# Altium footprint library 电源控制板---改版.PcbLib: 18 footprints (part 1 of 2)
Each footprint in its own frame and in the unit in brackets; x right, y up, seen from the top. Pads: shape width x height; smd on the part's side, far side on the other; paste and mask are expansions set on the pad; w line width, h text height; cw(c..) or ccw(c..) is an arc to the next point about the centre after c.
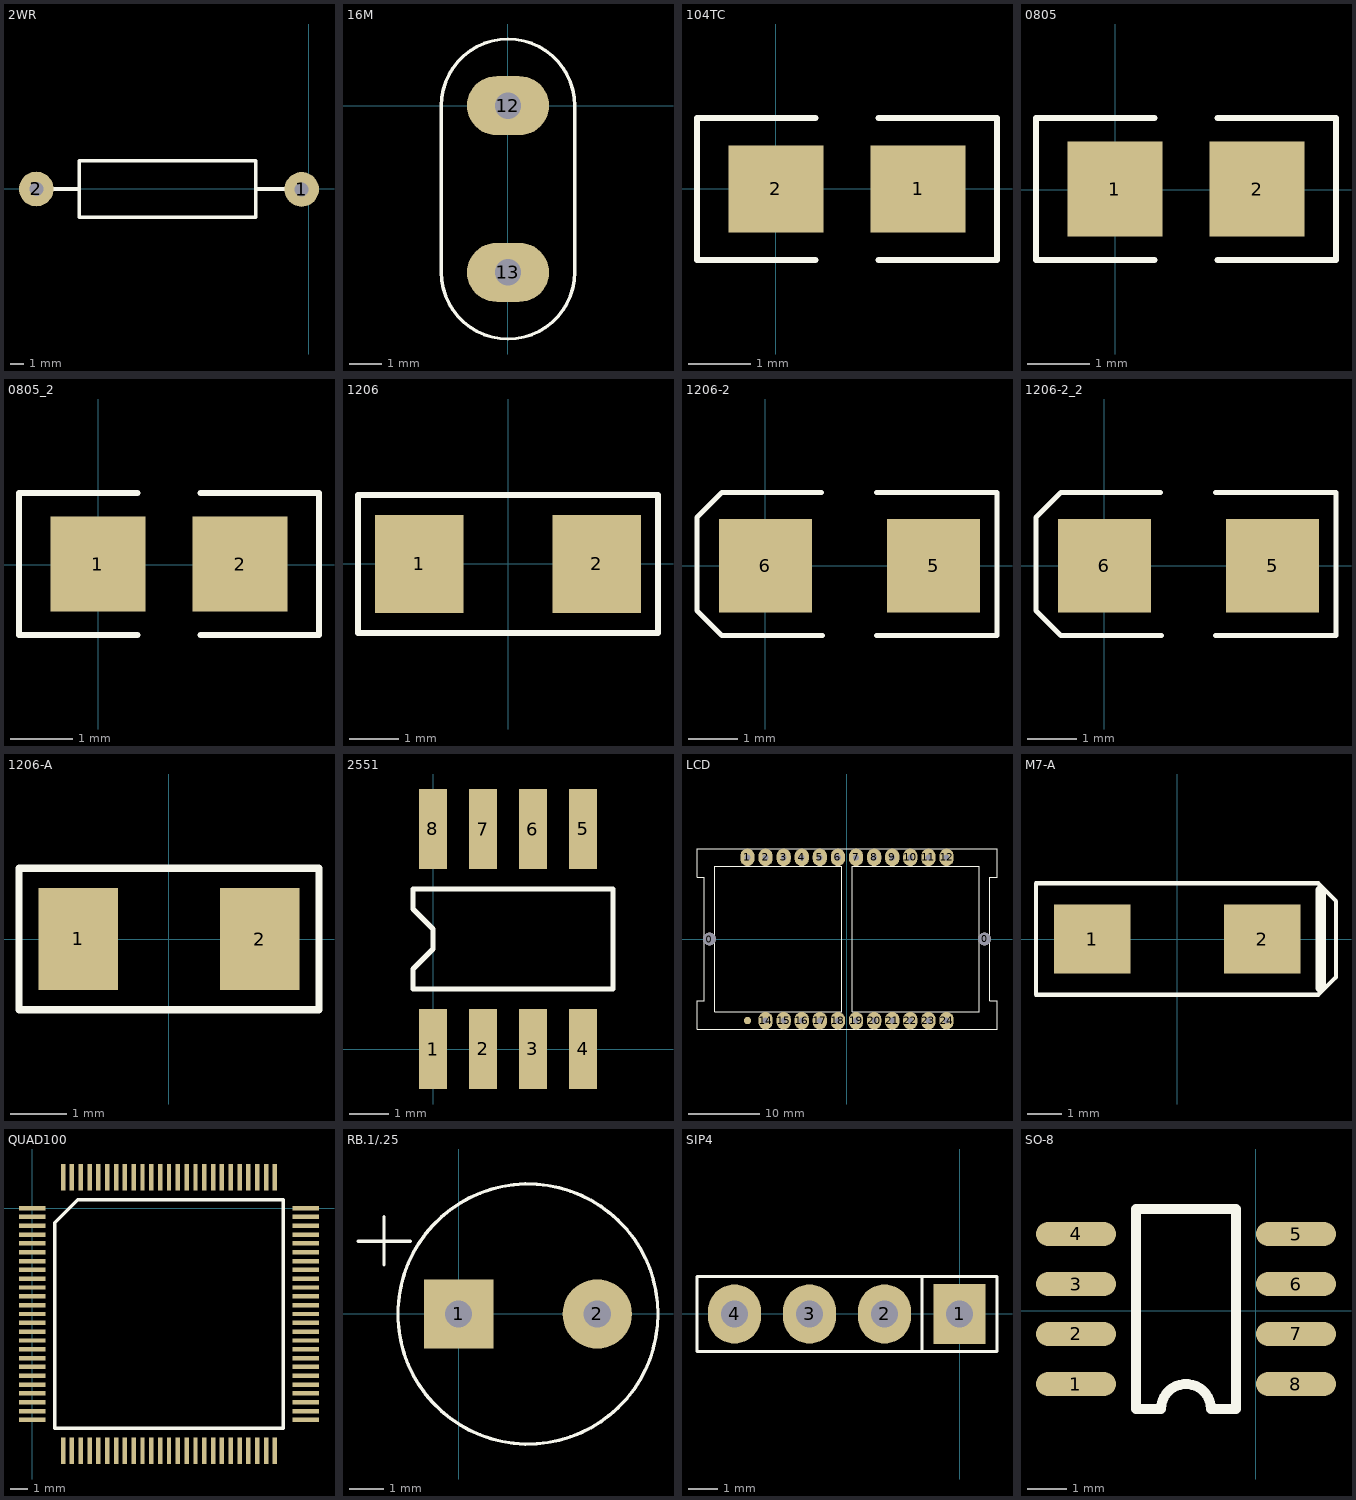
[diagram p0: the footprints below, top view; thin cyan lines are the x and y axes]

## 2WR [mm]
pads (2):
  round 2.5 hole 1: 1(-0.505,-0.03) 2(-19.604,0)
Top Overlay:
  lines w0.254: -19.05,0 -16.51,0 ; -3.81,0 -1.27,0 ; -16.51,-2.032 -16.51,2.032 -3.81,2.032 -3.81,-2.032 -16.51,-2.032

## 16M [mm]
pads (2):
  oval 2.5x1.8 hole 0.8: 12(0,0) 13(0,-5.08)
Top Overlay:
  lines w0.102: -2.032,-5.08 ccw(c0,-5.08) 2.032,-5.08 2.032,0 ccw(c0,0) -2.032,0 -2.032,-5.08

## 104TC [mil]
pads (2):
  rect 60x55.12 smd: 1(90,0) 2(0,0)
Top Overlay:
  lines w4: 25,-45 -50,-45 -50,45 25,45 ; 65,-45 140,-45 140,45 65,45

## 0805 [mil]
pads (2):
  rect 60x60 smd: 1(-0.28,0.39) 2(89.72,0.39)
Top Overlay:
  lines w4: 24.72,-44.61 -50.28,-44.61 -50.28,45.39 24.72,45.39 ; 64.72,-44.61 139.72,-44.61 139.72,45.39 64.72,45.39

## 0805_2 [mil]
pads (2):
  rect 60x60 smd: 1(-0.28,0.39) 2(89.72,0.39)
Top Overlay:
  lines w4: 24.72,-44.61 -50.28,-44.61 -50.28,45.39 24.72,45.39 ; 64.72,-44.61 139.72,-44.61 139.72,45.39 64.72,45.39

## 1206 [mm]
pads (2):
  rect 1.8x2 smd: 1(-1.8,0) 2(1.8,0)
Top Overlay:
  lines w0.127: -3.048,-1.4 -3.048,1.4 3.048,1.4 3.048,-1.4 -3.048,-1.4

## 1206-2 [mil]
pads (2):
  rect 75x75 smd: 5(135,0) 6(0,0)
Top Overlay:
  lines w4: -35,-56 -55,-36 -55,39 -35,59 45,59 ; -34,-56 46,-56 ; 89,-56 186,-56 186,59 89,59

## 1206-2_2 [mil]
pads (2):
  rect 75x75 smd: 5(135,0) 6(0,0)
Top Overlay:
  lines w4: -35,-56 -55,-36 -55,39 -35,59 45,59 ; -34,-56 46,-56 ; 89,-56 186,-56 186,59 89,59

## 1206-A [mm]
pads (2):
  rect 1.4x1.8 smd: 1(-1.6,0) 2(1.6,0)
Top Overlay:
  lines w0.127: -2.648,-1.25 2.648,-1.25 2.648,1.25 -2.648,1.25 -2.648,-1.25

## 2551 [mil]
pads (8):
  rect 28x80 smd: 1(0,0) 2(50,0) 3(100,0) 4(150,0) 5(150,220) 6(100,220) 7(50,220) 8(0,220)
Top Overlay:
  lines w5: -20,60 -20,80 0,100 0,120 -20,140 -20,160 180,160 180,60 -20,60

## LCD [mm]
pads (26):
  round 1.8 hole 1.8: 0(-19.3,0) 0(19.3,0)
  oval 2x2.45 hole 0.8: 1(-13.97,11.45) 2(-11.43,11.45) 3(-8.89,11.45) 4(-6.35,11.45) 5(-3.81,11.45) 6(-1.27,11.45) 7(1.27,11.45) 8(3.81,11.45) 9(6.35,11.45) 10(8.89,11.45) 11(11.43,11.45) 12(13.97,11.45) 14(-11.43,-11.45) 15(-8.89,-11.45) 16(-6.35,-11.45) 17(-3.81,-11.45) 18(-1.27,-11.45) 19(1.27,-11.45) 20(3.81,-11.45) 21(6.35,-11.45) 22(8.89,-11.45) 23(11.43,-11.45) 24(13.97,-11.45)
  round 1.016 all layers, no hole: 13(-13.97,-11.45)
Top Overlay:
  lines w0.102: -21.05,-12.7 0,-12.7 21.05,-12.7 21.05,-8.7 20.05,-8.7 20.05,0 20.05,8.7 21.05,8.7 21.05,12.7 0,12.7 -21.05,12.7 -21.05,8.7 -20.05,8.7 -20.05,0 -20.05,-8.7 -21.05,-8.7 -21.05,-12.7 ; -18.55,-10.2 -18.55,0 -18.55,10.2 -0.75,10.2 -0.75,0 -0.75,-10.2 -18.55,-10.2 ; 0.75,-10.2 18.55,-10.2 18.55,0 18.55,10.2 0.75,10.2 0.75,0 0.75,-10.2

## M7-A [mm]
pads (2):
  rect 2.2x2 smd: 1(-2.45,0) 2(2.45,0)
Top Overlay:
  lines w0.127: 4.572,-1.1 4.572,1.092 4.064,1.6 -4.064,1.6 -4.064,-1.6 4.064,-1.6 4.572,-1.092
  lines w0.3: 4.133,-1.4 4.133,1.4

## QUAD100 [mm]
pads (100):
  rect 1.5x0.25 smd: 1(0,0) 2(0,-0.5) 3(0,-1) 4(0,-1.5) 5(0,-2) 6(0,-2.5) 7(0,-3) 8(0,-3.5) 9(0,-4) 10(0,-4.5) 11(0,-5) 12(0,-5.5) 13(0,-6) 14(0,-6.5) 15(0,-7) 16(0,-7.5) 17(0,-8) 18(0,-8.5) 19(0,-9) 20(0,-9.5) 21(0,-10) 22(0,-10.5) 23(0,-11) 24(0,-11.5) 25(0,-12) 51(15.5,-12) 52(15.5,-11.5) 53(15.5,-11) 54(15.5,-10.5) 55(15.5,-10) 56(15.5,-9.5) 57(15.5,-9) 58(15.5,-8.5) 59(15.5,-8) 60(15.5,-7.5) 61(15.5,-7) 62(15.5,-6.5) 63(15.5,-6) 64(15.5,-5.5) 65(15.5,-5) 66(15.5,-4.5) 67(15.5,-4) 68(15.5,-3.5) 69(15.5,-3) 70(15.5,-2.5) 71(15.5,-2) 72(15.5,-1.5) 73(15.5,-1) 74(15.5,-0.5) 75(15.5,0)
  rect 0.25x1.5 smd: 26(1.75,-13.75) 27(2.25,-13.75) 28(2.75,-13.75) 29(3.25,-13.75) 30(3.75,-13.75) 31(4.25,-13.75) 32(4.75,-13.75) 33(5.25,-13.75) 34(5.75,-13.75) 35(6.25,-13.75) 36(6.75,-13.75) 37(7.25,-13.75) 38(7.75,-13.75) 39(8.25,-13.75) 40(8.75,-13.75) 41(9.25,-13.75) 42(9.75,-13.75) 43(10.25,-13.75) 44(10.75,-13.75) 45(11.25,-13.75) 46(11.75,-13.75) 47(12.25,-13.75) 48(12.75,-13.75) 49(13.25,-13.75) 50(13.75,-13.75) 76(13.75,1.75) 77(13.25,1.75) 78(12.75,1.75) 79(12.25,1.75) 80(11.75,1.75) 81(11.25,1.75) 82(10.75,1.75) 83(10.25,1.75) 84(9.75,1.75) 85(9.25,1.75) 86(8.75,1.75) 87(8.25,1.75) 88(7.75,1.75) 89(7.25,1.75) 90(6.75,1.75) 91(6.25,1.75) 92(5.75,1.75) 93AD(5.25,1.75) 94AD(4.75,1.75) 95AD(4.25,1.75) 96AD(3.75,1.75) 97AD(3.25,1.75) 98AD(2.75,1.75) 99AD(2.25,1.75) 100AD(1.75,1.75)
Top Overlay:
  lines w0.2: 1.285,-12.465 14.215,-12.465 14.215,0.465 2.57,0.465 1.285,-0.82 1.285,-12.465

## RB.1/.25 [mil]
pads (2):
  rect 80x80 hole 31.5: 1(0,0)
  round 80 hole 31.5: 2(160,0)
Top Overlay:
  circle w4: c80,0 r150
  lines w4: -116,84 -56,84 ; -86,57 -86,112

## SIP4 [mm]
pads (4):
  rect 1.778x2.032 hole 0.9: 1(0,0)
  oval 1.8x2 hole 0.9: 2(-2.54,0) 3(-5.08,0) 4(-7.62,0)
Top Overlay:
  lines w0.102: -1.27,-1.27 -1.27,1.27 ; -8.89,-1.27 1.27,-1.27 1.27,1.27 -8.89,1.27 -8.89,-1.27

## SO-8 [mil]
pads (8):
  oval 80x24 smd: 1(-179.75,-73.19) 2(-179.75,-23.19) 3(-179.75,26.81) 4(-179.75,76.81) 5(40.25,76.81) 6(40.25,26.81) 7(40.25,-23.19) 8(40.25,-73.19)
Top Overlay:
  lines w10: -119.75,-98.19 -94.75,-98.19 cw(c-69.75,-98.19) -44.75,-98.19 -19.75,-98.19 -19.75,101.81 -119.75,101.81 -119.75,-98.19